# Altium footprint library BC8SATEV1.01.PcbLib: 63 footprints (part 3 of 4)
Each footprint in its own frame and in the unit in brackets; x right, y up, seen from the top. Pads: shape width x height; smd on the part's side, far side on the other; paste and mask are expansions set on the pad; w line width, h text height; cw(c..) or ccw(c..) is an arc to the next point about the centre after c.
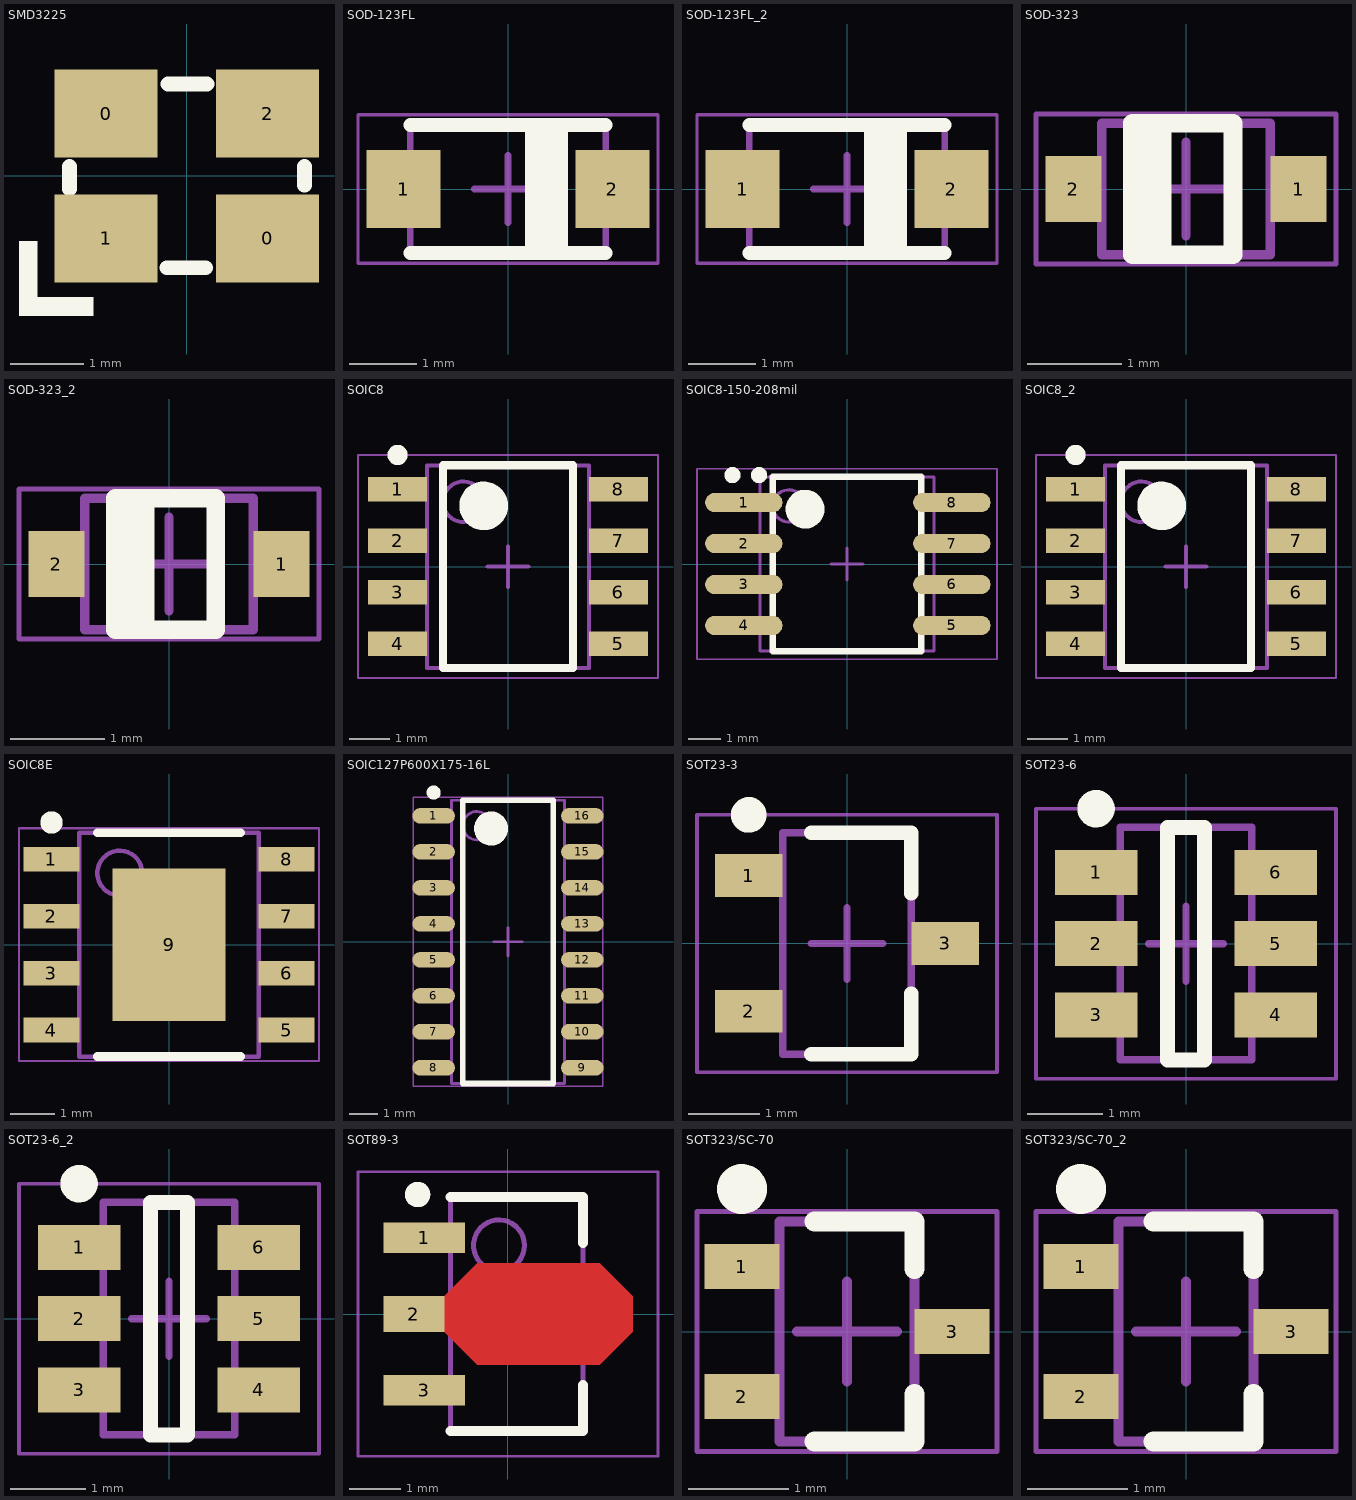
[diagram p2: the footprints below, top view; thin cyan lines are the x and y axes]

## SMD3225 [mm]
height 0.65
pads (4):
  rect 1.4x1.2 smd: 0(-1.1,0.85) 0(1.1,-0.85) 1(-1.1,-0.85) 2(1.1,0.85)
Top Overlay:
  rectangle: -2.286,-1.905 -1.27,-1.651
  rectangle: -2.286,-1.778 -2.032,-0.889
  lines w0.203: -1.6,-0.178 -1.6,0.127 ; -0.274,-1.25 0.254,-1.25 ; -0.254,1.25 0.274,1.25 ; 1.6,-0.127 1.6,0.127
3D body: height 0.7, standoff 0, extent -1.6,-1.25 1.6,1.25

## SOD-123FL [mm] "SODFL, 2-Leads, Body 1.80x3.60mm, IPC Medium Density"
height 1.08
pads (2):
  rect 1.1x1.15 smd: 1(-1.55,0) 2(1.55,0)
Top Overlay:
  rectangle: 0.254,-1.016 0.889,0.95
  lines w0.203: -1.45,-0.95 1.45,-0.95 ; -1.45,0.95 1.45,0.95
Mechanical 13:
  lines w0.1: -1.45,-0.95 -1.45,0.95 1.45,0.95 1.45,-0.95 -1.45,-0.95
Mechanical 15:
  lines w0.05: -2.225,-1.1 2.225,-1.1 2.225,1.1 -2.225,1.1 -2.225,-1.1
  lines w0.1: -0.5,0 0.5,0 ; 0,-0.5 0,0.5
3D body "SOD-123FL.step": height 1.08, standoff 0, extent -1.8,-0.95 1.8,0.95

## SOD-123FL_2 [mm]
pads (2):
  rect 1.1x1.15 smd: 1(-1.55,0) 2(1.55,0)
Top Overlay:
  rectangle: 0.254,-1.016 0.889,0.95
  lines w0.203: -1.45,-0.95 1.45,-0.95 ; -1.45,0.95 1.45,0.95
Mechanical 13:
  lines w0.1: -1.45,-0.95 1.45,-0.95 1.45,0.95 -1.45,0.95 -1.45,-0.95
Mechanical 15:
  lines w0.05: -2.225,-1.1 -2.225,1.1 2.225,1.1 2.225,-1.1 -2.225,-1.1
  lines w0.1: -0.5,0 0.5,0 ; 0,-0.5 0,0.5
3D body "SOD-123FL.step": height 1.08, standoff 0, extent -1.8,-0.95 1.8,0.95

## SOD-323 [mm] "SOIC, 2-Leads, Body 1.30x1.70mm, Pitch 1.27mm, IPC High Density"
height 1.2
pads (2):
  rect 0.6x0.7 smd: 1(1.2,0) 2(-1.2,0)
Top Overlay:
  lines w0.2: -0.381,-0.7 -0.381,0.7 ; -0.254,-0.7 -0.254,0.7 ; 0,-0.7 -0.57,-0.7 -0.57,0.7 0,0.7 ; -0.5,-0.7 0.5,-0.7 0.5,0.7 -0.5,0.7 -0.5,-0.7
Mechanical 13:
  lines w0.1: -0.9,-0.7 0.9,-0.7 0.9,0.7 -0.9,0.7 -0.9,-0.7
Mechanical 15:
  lines w0.05: -1.6,-0.8 1.6,-0.8 1.6,0.8 -1.6,0.8 -1.6,-0.8
  lines w0.1: -0.5,0 0.5,0 ; 0,-0.5 0,0.5
3D body "SOIC127P250X120-2L.step": height 1.2, standoff 0.01, extent -1.243,-0.7 1.243,0.7

## SOD-323_2 [mm]
pads (2):
  rect 0.6x0.7 smd: 1(1.2,0) 2(-1.2,0)
Top Overlay:
  lines w0.2: -0.381,-0.7 -0.381,0.7 ; -0.254,-0.7 -0.254,0.7 ; 0,-0.7 -0.57,-0.7 -0.57,0.7 0,0.7 ; -0.5,-0.7 -0.5,0.7 0.5,0.7 0.5,-0.7 -0.5,-0.7
Mechanical 13:
  lines w0.1: -0.9,-0.7 -0.9,0.7 0.9,0.7 0.9,-0.7 -0.9,-0.7
Mechanical 15:
  lines w0.05: -1.6,-0.8 -1.6,0.8 1.6,0.8 1.6,-0.8 -1.6,-0.8
  lines w0.1: -0.5,0 0.5,0 ; 0,-0.5 0,0.5
3D body "SOIC127P250X120-2L.step": height 1.2, standoff 0.01, extent -1.243,-0.7 1.243,0.7

## SOIC8 [mm] "SOIC, 8-Leads, Body 4.90x3.90mm, Pitch 1.27mm, IPC Medium Density"
height 1.75
pads (8):
  rect 1.45x0.6 smd: 1(-2.725,1.905) 2(-2.725,0.635) 3(-2.725,-0.635) 4(-2.725,-1.905) 5(2.725,-1.905) 6(2.725,-0.635) 7(2.725,0.635) 8(2.725,1.905)
Top Overlay:
  circle w0.6: c-0.6,1.5 r0.3
  circle w0.25: c-2.725,2.755 r0.125
  lines w0.2: -1.6,-2.5 1.6,-2.5 1.6,2.5 -1.6,2.5 -1.6,-2.5
Mechanical 13:
  circle w0.1: c-1.1,1.6 r0.5
  lines w0.1: -2,-2.5 2,-2.5 2,2.5 -2,2.5 -2,-2.5
Mechanical 15:
  lines w0.05: -3.7,-2.75 3.7,-2.75 3.7,2.75 -3.7,2.75 -3.7,-2.75
  lines w0.1: -0.5,0 0.5,0 ; 0,-0.5 0,0.5
3D body "SOIC127P600X175-8N.step": height 1.75, standoff 0, extent -3,-2.5 3,2.5

## SOIC8-150-208mil [mm] "SOIC, 8-Leads, Body 5.28x5.28mm, Pitch 1.27mm, IPC Medium Density"
height 2.16
pads (8):
  oval 2.4x0.6 smd: 1(-3.2,1.905) 2(-3.2,0.635) 3(-3.2,-0.635) 4(-3.2,-1.905) 5(3.25,-1.905) 6(3.25,-0.635) 7(3.25,0.635) 8(3.25,1.905)
Top Overlay:
  circle w0.25: c-2.725,2.755 r0.125
  circle w0.25: c-3.55,2.755 r0.125
  circle w0.6: c-1.3,1.7 r0.3
  lines w0.2: -2.3,-2.7 -2.3,2.7 2.3,2.7 2.3,-2.7 -2.3,-2.7
Mechanical 13:
  circle w0.1: c-1.8,1.8 r0.5
  lines w0.1: -2.7,-2.7 -2.7,2.7 2.7,2.7 2.7,-2.7 -2.7,-2.7
Mechanical 15:
  lines w0.05: -4.65,-2.95 -4.65,2.95 4.65,2.95 4.65,-2.95 -4.65,-2.95
  lines w0.1: -0.5,0 0.5,0 ; 0,-0.5 0,0.5
3D body "SOIC8-208mil.step": height 2.16, standoff 0, extent -3.95,-2.7 3.95,2.7

## SOIC8_2 [mm]
pads (8):
  rect 1.45x0.6 smd: 1(-2.725,1.905) 2(-2.725,0.635) 3(-2.725,-0.635) 4(-2.725,-1.905) 5(2.725,-1.905) 6(2.725,-0.635) 7(2.725,0.635) 8(2.725,1.905)
Top Overlay:
  circle w0.25: c-2.725,2.755 r0.125
  circle w0.6: c-0.6,1.5 r0.3
  lines w0.2: -1.6,-2.5 -1.6,2.5 1.6,2.5 1.6,-2.5 -1.6,-2.5
Mechanical 13:
  circle w0.1: c-1.1,1.6 r0.5
  lines w0.1: -2,-2.5 -2,2.5 2,2.5 2,-2.5 -2,-2.5
Mechanical 15:
  lines w0.05: -3.7,-2.75 -3.7,2.75 3.7,2.75 3.7,-2.75 -3.7,-2.75
  lines w0.1: -0.5,0 0.5,0 ; 0,-0.5 0,0.5
3D body "SOIC127P600X175-8N.step": height 1.75, standoff 0, extent -3,-2.5 3,2.5

## SOIC8E [mm] "SOIC, 8-Leads, Body 4.90x3.90mm, Pitch 1.27mm, Thermal Pad 3.41x2.52mm, IPC High Density"
height 1.75
pads (9):
  rect 1.25x0.55 smd: 1(-2.625,1.905) 2(-2.625,0.635) 3(-2.625,-0.635) 4(-2.625,-1.905) 5(2.625,-1.905) 6(2.625,-0.635) 7(2.625,0.635) 8(2.625,1.905)
  rect 2.52x3.41 smd: 9(0,0)
Top Overlay:
  circle w0.25: c-2.625,2.73 r0.125
  lines w0.2: -1.6,-2.5 1.6,-2.5 ; -1.6,2.5 1.6,2.5
Mechanical 13:
  circle w0.1: c-1.1,1.6 r0.5
  lines w0.1: -2,-2.5 2,-2.5 2,2.5 -2,2.5 -2,-2.5
Mechanical 15:
  lines w0.05: -3.35,-2.6 3.35,-2.6 3.35,2.6 -3.35,2.6 -3.35,-2.6
  lines w0.1: -0.5,0 0.5,0 ; 0,-0.5 0,0.5
3D body "SOIC127P600X175_HS-9L.step": height 1.75, standoff 0, extent -3,-2.5 3,2.5

## SOIC127P600X175-16L [mm] "SOIC, 16-Leads, Body 9.90x3.90mm, Pitch 1.27mm, IPC High Density"
height 1.75
pads (16):
  oval 1.5x0.55 smd: 1(-2.625,4.445) 2(-2.625,3.175) 3(-2.625,1.905) 4(-2.625,0.635) 5(-2.625,-0.635) 6(-2.625,-1.905) 7(-2.625,-3.175) 8(-2.625,-4.445) 9(2.625,-4.445) 10(2.625,-3.175) 11(2.625,-1.905) 12(2.625,-0.635) 13(2.625,0.635) 14(2.625,1.905) 15(2.625,3.175) 16(2.625,4.445)
Top Overlay:
  circle w0.6: c-0.6,4 r0.3
  circle w0.25: c-2.625,5.27 r0.125
  lines w0.2: -1.6,-5 1.6,-5 1.6,5 -1.6,5 -1.6,-5
Mechanical 13:
  circle w0.1: c-1.1,4.1 r0.5
  lines w0.1: -2,-5 2,-5 2,5 -2,5 -2,-5
Mechanical 15:
  lines w0.05: -3.35,-5.1 3.35,-5.1 3.35,5.1 -3.35,5.1 -3.35,-5.1
  lines w0.1: -0.5,0 0.5,0 ; 0,-0.5 0,0.5
3D body "SOIC127P600X175-16L.step": height 1.75, standoff 0, extent -3,-5 3,5

## SOT23-3 [mm] "SOT23, 3-Leads, Body 2.90x2.80mm, Pitch 0.95mm, IPC Medium Density"
height 1.2
pads (3):
  rect 0.95x0.6 smd: 1(-1.375,0.95) 2(-1.375,-0.95) 3(1.375,0)
Top Overlay:
  circle w0.25: c-1.375,1.8 r0.125
  lines w0.2: -0.5,-1.55 0.9,-1.55 0.9,-0.7 ; -0.5,1.55 0.9,1.55 0.9,0.7
Mechanical 13:
  lines w0.1: -0.9,-1.55 0.9,-1.55 0.9,1.55 -0.9,1.55 -0.9,-1.55
Mechanical 15:
  lines w0.05: -2.1,-1.8 2.1,-1.8 2.1,1.8 -2.1,1.8 -2.1,-1.8
  lines w0.1: -0.5,0 0.5,0 ; 0,-0.5 0,0.5
3D body "SOT95P280X120-3N.step": height 1.2, standoff 0, extent -1.5,-1.55 1.5,1.55

## SOT23-6 [mm] "SOIC, 8-Leads, Body 4.90x3.90mm, Pitch 1.27mm, IPC Medium Density"
height 1.45
pads (6):
  rect 1.1x0.6 smd: 1(-1.2,0.95) 2(-1.2,0) 3(-1.2,-0.95) 4(1.2,-0.95) 5(1.2,0) 6(1.2,0.95)
Top Overlay:
  circle w0.25: c-1.2,1.8 r0.125
  lines w0.2: -0.25,-1.55 -0.25,1.55 0.25,1.55 0.25,-1.55 -0.25,-1.55
Mechanical 13:
  lines w0.1: -0.875,-1.55 0.875,-1.55 0.875,1.55 -0.875,1.55 -0.875,-1.55
Mechanical 15:
  lines w0.05: -2,-1.8 2,-1.8 2,1.8 -2,1.8 -2,-1.8
  lines w0.1: -0.5,0 0.5,0 ; 0,-0.5 0,0.5
3D body: height 1.45, standoff 0.08, extent -0.875,-1.55 0.875,1.55

## SOT23-6_2 [mm]
pads (6):
  rect 1.1x0.6 smd: 1(-1.2,0.95) 2(-1.2,0) 3(-1.2,-0.95) 4(1.2,-0.95) 5(1.2,0) 6(1.2,0.95)
Top Overlay:
  circle w0.25: c-1.2,1.8 r0.125
  lines w0.2: -0.25,-1.55 -0.25,1.55 0.25,1.55 0.25,-1.55 -0.25,-1.55
Mechanical 13:
  lines w0.1: -0.875,-1.55 0.875,-1.55 0.875,1.55 -0.875,1.55 -0.875,-1.55
Mechanical 15:
  lines w0.05: -2,-1.8 2,-1.8 2,1.8 -2,1.8 -2,-1.8
  lines w0.1: -0.5,0 0.5,0 ; 0,-0.5 0,0.5
3D body: height 1.45, standoff 0.08, extent -0.875,-1.55 0.875,1.55

## SOT89-3 [mm] "SOT89, 3-Leads, Body 4.50x2.45mm, Pitch 1.50mm, Lead Span 3.5mm, IPC Low Density"
height 1.6
pads (3):
  rect 1.6x0.6 smd: 1(-1.65,1.5) 3(-1.65,-1.5)
  rect 1.2x0.7 smd: 2(-1.85,0)
Top Layer:
  region: -1.25,0.35 -0.6,1 1.8,1 2.45,0.35 2.45,-0.35 1.8,-1 -0.6,-1 -1.25,-0.35
Top Overlay:
  circle w0.25: c-1.777,2.35 r0.125
  lines w0.2: -1.127,-2.3 1.473,-2.3 1.473,-1.4 ; -1.127,2.3 1.473,2.3 1.473,1.4
Mechanical 13:
  circle w0.1: c-0.178,1.35 r0.5
  lines w0.1: -1.127,-2.3 -1.127,2.3 1.473,2.3 1.473,-2.3 -1.127,-2.3
Mechanical 15:
  lines w0.05: -2.95,-2.8 -2.95,2.8 2.95,2.8 2.95,-2.8 -2.95,-2.8
  lines w0.1: -0.327,0 0.673,0 ; 0.173,-0.5 0.173,0.5
3D body "SOT89-150P349X160-3M.step": height 1.6, standoff 0, extent -2.2,-2.297 2.1,2.297

## SOT323/SC-70 [mm] "SOT23, 3-Leads, Body 2.10x2.30mm, Pitch 0.65mm, IPC High Density"
height 1.1
pads (3):
  rect 0.75x0.45 smd: 1(-1.05,0.65) 2(-1.05,-0.65) 3(1.05,0)
Top Overlay:
  circle w0.25: c-1.05,1.425 r0.125
  lines w0.2: -0.325,-1.1 0.675,-1.1 0.675,-0.625 ; -0.325,1.1 0.675,1.1 0.675,0.625
Mechanical 13:
  lines w0.1: -0.675,-1.1 0.675,-1.1 0.675,1.1 -0.675,1.1 -0.675,-1.1
Mechanical 15:
  lines w0.05: -1.5,-1.2 1.5,-1.2 1.5,1.2 -1.5,1.2 -1.5,-1.2
  lines w0.1: -0.5,0 0.5,0 ; 0,-0.5 0,0.5
3D body "SOT65P230X110-3L.step": height 1.1, standoff 0, extent -1.225,-1.1 1.225,1.1

## SOT323/SC-70_2 [mm]
pads (3):
  rect 0.75x0.45 smd: 1(-1.05,0.65) 2(-1.05,-0.65) 3(1.05,0)
Top Overlay:
  circle w0.25: c-1.05,1.425 r0.125
  lines w0.2: -0.325,-1.1 0.675,-1.1 0.675,-0.625 ; -0.325,1.1 0.675,1.1 0.675,0.625
Mechanical 13:
  lines w0.1: -0.675,-1.1 -0.675,1.1 0.675,1.1 0.675,-1.1 -0.675,-1.1
Mechanical 15:
  lines w0.05: -1.5,-1.2 -1.5,1.2 1.5,1.2 1.5,-1.2 -1.5,-1.2
  lines w0.1: -0.5,0 0.5,0 ; 0,-0.5 0,0.5
3D body "SOT65P230X110-3L.step": height 1.1, standoff 0, extent -1.225,-1.1 1.225,1.1